# EAGLE library part 613006143121 (library Board-to-Board (rev18a))
WR-PHD 2.54mm Angled Socket Header, 6 Pins =>Code : Con_BTB_SHD_2.54_1_THT_613006143121 <http://katalog.we-online.de/media/images/eican/Con_BTB_SHD_2.54_1_THT_6130xx143121_pf2.jpg> Details see: http://katalog.we-online.de/en/em/613_0xx_143_121 Created 2014-05-29, Karrer Zheng 2014 (C) Würth Elektronik
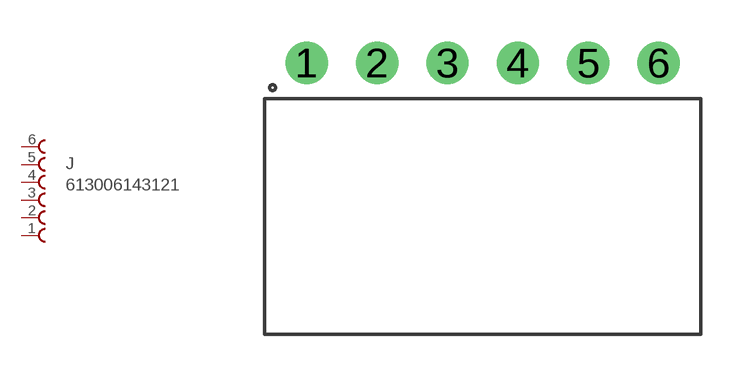
[diagram p126: symbol with the pads of 613006143121; footprint 613006143121]

Designator prefix J

## 613006143121  [613006143121]
1  6  pas
2  5  pas
3  4  pas
4  3  pas
5  2  pas
6  1  pas

## Footprint 613006143121 (pad centres in mm)
WR-PHD 2.54mm Angled Socket Header, 6 Pins
drill 1.02: 1 -6.35,0; 2 -3.81,0; 3 -1.27,0; 4 1.27,0; 5 3.81,0; 6 6.35,0